# EAGLE library part LT1990*? (library LT1990)
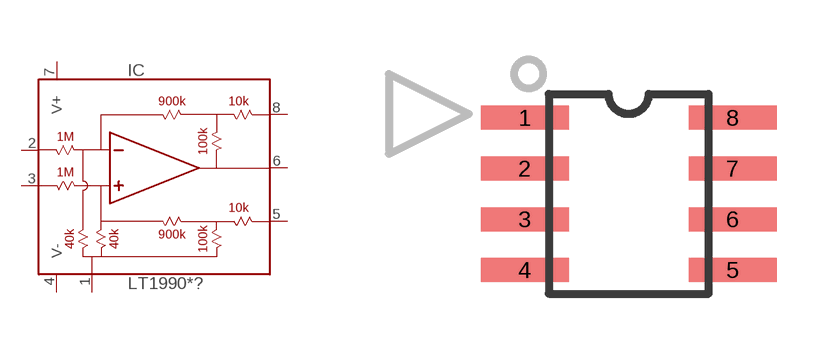
[diagram p0: symbol with the pads of SOIC8; footprint SOIC8]

Designator prefix IC

## LT1990ACS8 (MARK: 1990A; MF: Linear; MPN: LT1990ACS8#TRPBF), LT1990AHS8 (MARK: 1990AH; MF: Linear; MPN: LT1990AHS8#TRPBF), LT1990AIS8 (MARK: 1990AI; MF: Linear; MPN: LT1990AIS8#TRPBF), LT1990CS8 (MARK: 1990; MF: Linear; MPN: LT1990CS8#TRPBF), LT1990HS8 (MARK: 1990H; MF: Linear; MPN: LT1990HS8#TRPBF), LT1990IS8 (MARK: 1990I; MF: Linear; MPN: LT1990IS8#TRPBF)  [SOIC8]
1  REF
2  INV  in
3  !INV  in
4  V-  pwr
5  GAIN2
6  VOUT  out
7  V+  pwr
8  GAIN1

## Footprint SOIC8 (pad centres in mm)
smd 2.2 x 0.6: 1 -2.6,1.905; 2 -2.6,0.635; 3 -2.6,-0.635; 4 -2.6,-1.905; 5 2.6,-1.905; 6 2.6,-0.635; 7 2.6,0.635; 8 2.6,1.905